# Altium footprint library ToolDoorController.PcbLib: 27 footprints (part 1 of 2)
Each footprint in its own frame and in the unit in brackets; x right, y up, seen from the top. Pads: shape width x height; smd on the part's side, far side on the other; paste and mask are expansions set on the pad; w line width, h text height; cw(c..) or ccw(c..) is an arc to the next point about the centre after c.
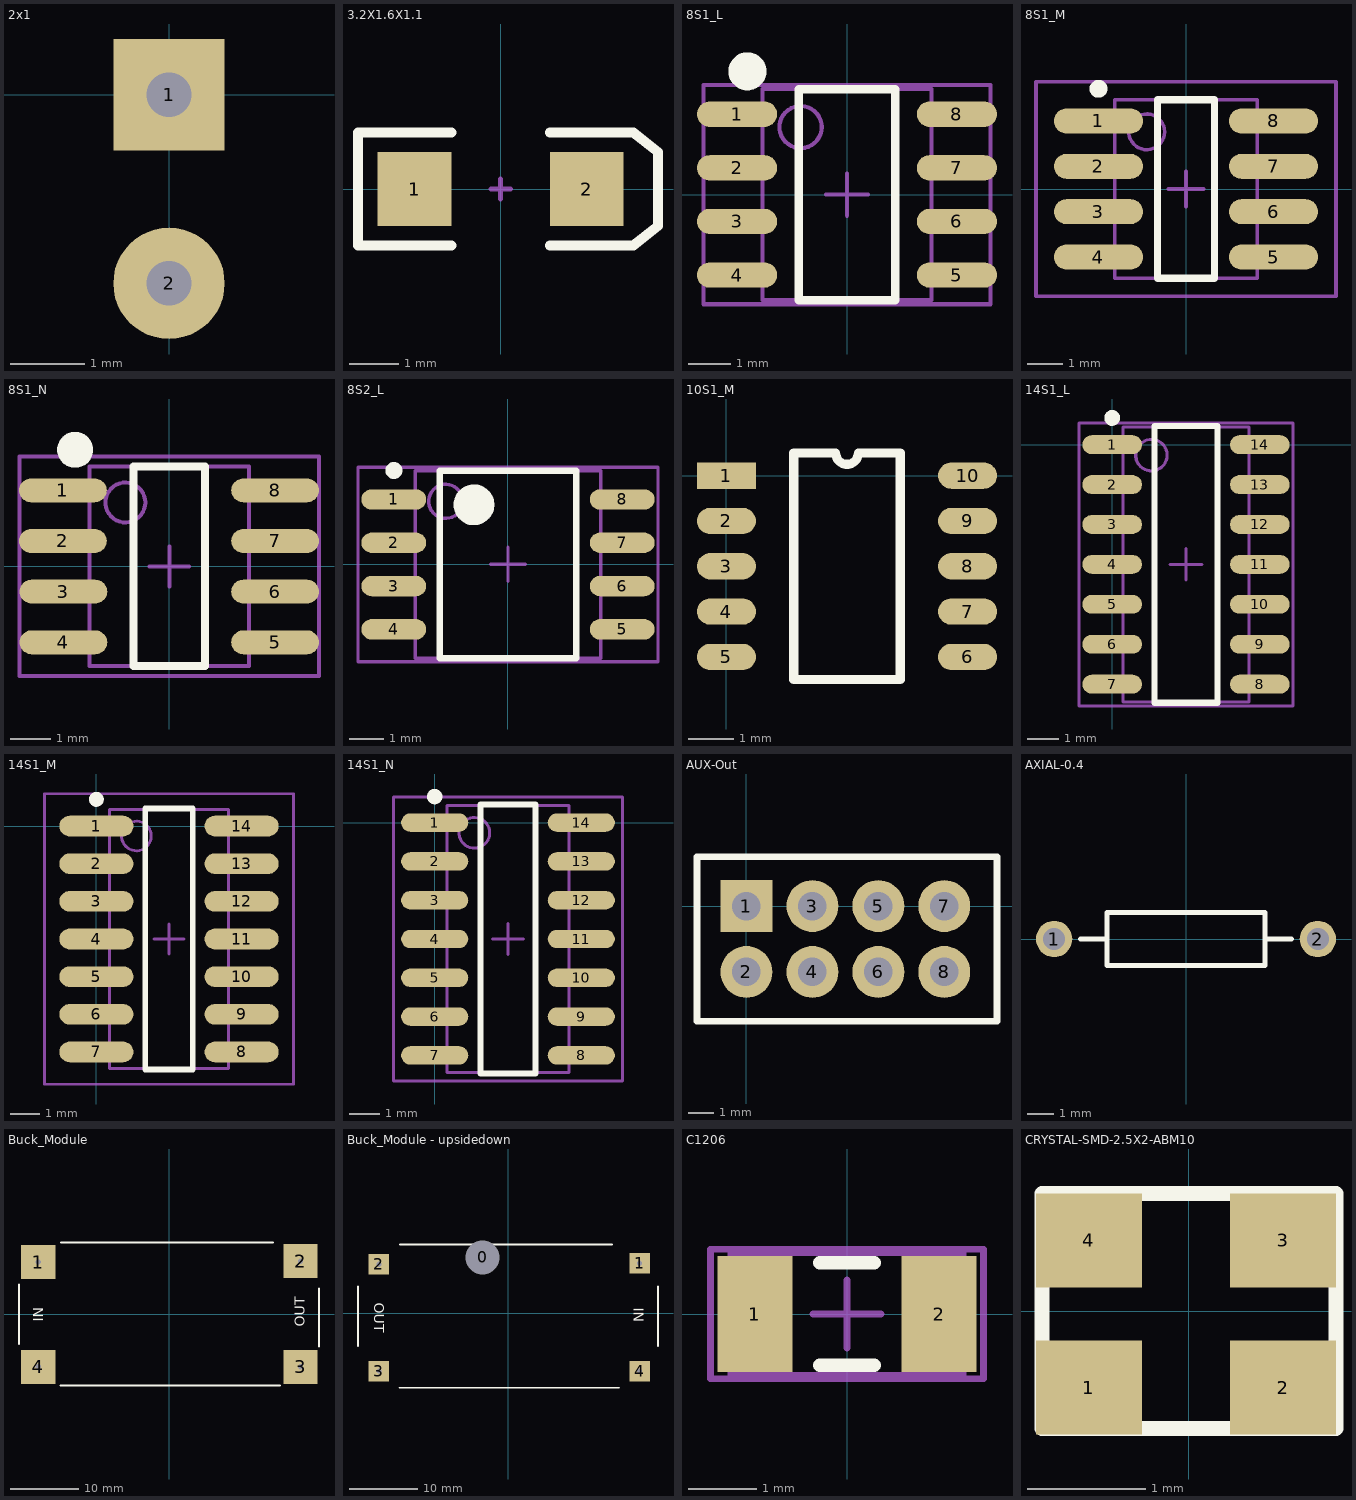
[diagram p0: the footprints below, top view; thin cyan lines are the x and y axes]

## 2x1 [mm]
pads (2):
  rect 1.5x1.5 hole 0.6: 1(0,0)
  round 1.5 hole 0.6: 2(0,-2.54)

## 3.2X1.6X1.1 [mm] "SMT LED; 2 Flat Leads"
height 1.2
pads (2):
  rect 1.5x1.5 smd: 1(-1.75,0) 2(1.75,0)
Top Overlay:
  lines w0.2: -1,-1.15 -2.9,-1.15 -2.9,1.15 -1,1.15 ; 1,-1.15 2.7,-1.15 3.2,-0.75 3.2,0.75 2.7,1.15 1,1.15
Mechanical 1:
  lines w0.1: -0.2,0 0.2,0 ; 0,-0.2 0,0.2

## 8S1_L [mm] "SOIC, 8-Leads, Body 4.9x3.9mm, Pitch 1.27mm, IPC High Density"
height 1.75
pads (8):
  oval 1.9x0.6 smd: 1(-2.604,1.905) 2(-2.604,0.635) 3(-2.604,-0.635) 4(-2.604,-1.905) 5(2.604,-1.905) 6(2.604,-0.635) 7(2.604,0.635) 8(2.604,1.905)
Top Overlay:
  circle w0.5: c-2.359,2.921 r0.2
  lines w0.2: -1.143,-2.5 -1.143,2.5 1.143,2.5 1.143,-2.5 -1.143,-2.5
Mechanical 13:
  circle w0.1: c-1.1,1.6 r0.5
  lines w0.1: -2,-2.5 2,-2.5 2,2.5 -2,2.5 -2,-2.5
Mechanical 15:
  lines w0.1: -0.5,0 0.5,0 ; 0,-0.5 0,0.5 ; -3.4,-2.6 3.4,-2.6 3.4,2.6 -3.4,2.6 -3.4,-2.6
3D body: height 1.75, standoff 0, extent -2,-2.5 2,2.5

## 8S1_M [mm] "SOIC, 8-Leads, Body 4.9x3.9mm, Pitch 1.27mm, IPC Low Density"
height 1.75
pads (8):
  oval 2.5x0.7 smd: 1(-2.45,1.905) 2(-2.45,0.635) 3(-2.45,-0.635) 4(-2.45,-1.905) 5(2.45,-1.905) 6(2.45,-0.635) 7(2.45,0.635) 8(2.45,1.905)
Top Overlay:
  circle w0.25: c-2.45,2.805 r0.125
  lines w0.2: -0.8,-2.5 -0.8,2.5 0.8,2.5 0.8,-2.5 -0.8,-2.5
Mechanical 13:
  circle w0.1: c-1.1,1.6 r0.5
  lines w0.1: -2,-2.5 -2,2.5 2,2.5 2,-2.5 -2,-2.5
Mechanical 15:
  lines w0.1: -0.5,0 0.5,0 ; 0,-0.5 0,0.5 ; -4.2,-3 -4.2,3 4.2,3 4.2,-3 -4.2,-3
3D body: height 1.75, standoff 0, extent -2,-2.5 2,2.5

## 8S1_N [mm] "SOIC, 8-Leads, Body 4.9x3.9mm, Pitch 1.27mm, IPC Medium Density"
height 1.75
pads (8):
  oval 2.2x0.6 smd: 1(-2.667,1.905) 2(-2.667,0.635) 3(-2.654,-0.635) 4(-2.654,-1.905) 5(2.654,-1.905) 6(2.654,-0.635) 7(2.654,0.635) 8(2.654,1.905)
Top Overlay:
  circle w0.5: c-2.359,2.921 r0.2
  lines w0.2: -0.9,-2.5 0.9,-2.5 0.9,2.5 -0.9,2.5 -0.9,-2.5
Mechanical 13:
  circle w0.1: c-1.1,1.6 r0.5
  lines w0.1: -2,-2.5 2,-2.5 2,2.5 -2,2.5 -2,-2.5
Mechanical 15:
  lines w0.1: -0.5,0 0.5,0 ; 0,-0.5 0,0.5 ; -3.75,-2.75 3.75,-2.75 3.75,2.75 -3.75,2.75 -3.75,-2.75
3D body: height 1.75, standoff 0, extent -2,-2.5 2,2.5

## 8S2_L [mm] "SOP, 8-Leads, Body 5.3x5.3mm, Pitch 1.27mm, IPC High Density"
height 2.16
pads (8):
  oval 1.9x0.6 smd: 1(-3.35,1.905) 2(-3.35,0.635) 3(-3.35,-0.635) 4(-3.35,-1.905) 5(3.35,-1.905) 6(3.35,-0.635) 7(3.35,0.635) 8(3.35,1.905)
Top Overlay:
  circle w0.25: c-3.35,2.755 r0.125
  circle w0.6: c-1,1.75 r0.3
  lines w0.2: -2,-2.75 -2,2.75 2,2.75 2,-2.75 -2,-2.75
Mechanical 13:
  circle w0.1: c-1.825,1.85 r0.5
  lines w0.1: -2.725,-2.75 -2.725,2.75 2.725,2.75 2.725,-2.75 -2.725,-2.75
Mechanical 15:
  lines w0.1: -0.5,0 0.5,0 ; 0,-0.5 0,0.5 ; -4.4,-2.85 -4.4,2.85 4.4,2.85 4.4,-2.85 -4.4,-2.85
3D body: height 2.16, standoff 0, extent -2.725,-2.75 2.725,2.75

## 10S1_M [mm]
pads (10):
  rect 1.3x0.58 smd: 1(0,0)
  oval 1.3x0.58 smd: 2(0,-1) 3(0,-2) 4(0,-3) 5(0,-4) 6(5.32,-4) 7(5.32,-3) 8(5.32,-2) 9(5.32,-1) 10(5.32,0)
Top Overlay:
  lines w0.2: 1.485,-4.5 1.485,0.5 2.41,0.5 ccw(c2.66,0.5) 2.91,0.5 3.835,0.5 3.835,-4.5 1.485,-4.5
3D body: height 1.75, standoff 0, extent 0,-4.572 5.334,0.762

## 14S1_L [mm] "SOIC, 14-Leads, Body 8.7x3.9mm, Pitch 1.27mm, IPC High Density"
height 1.75
pads (14):
  oval 1.9x0.6 smd: 1(0,0) 2(0,-1.27) 3(0,-2.54) 4(0,-3.81) 5(0,-5.08) 6(0,-6.35) 7(0,-7.62) 8(4.7,-7.62) 9(4.7,-6.35) 10(4.7,-5.08) 11(4.7,-3.81) 12(4.7,-2.54) 13(4.7,-1.27) 14(4.7,0)
Top Overlay:
  circle w0.25: c0,0.85 r0.125
  lines w0.2: 1.35,-8.21 3.35,-8.21 3.35,0.59 1.35,0.59 1.35,-8.21
Mechanical 13:
  circle w0.1: c1.25,-0.335 r0.5
  lines w0.1: 0.35,-8.185 4.35,-8.185 4.35,0.565 0.35,0.565 0.35,-8.185
Mechanical 15:
  lines w0.1: 1.85,-3.81 2.85,-3.81 ; 2.35,-4.31 2.35,-3.31 ; -1.05,-8.31 5.75,-8.31 5.75,0.69 -1.05,0.69 -1.05,-8.31
3D body: height 1.75, standoff 0, extent 0.35,-8.185 4.35,0.565

## 14S1_M [mm] "SOIC, 14-Leads, Body 8.7x3.9mm, Pitch 1.27mm, IPC Low Density"
height 1.75
pads (14):
  oval 2.5x0.7 smd: 1(0,0) 2(0,-1.27) 3(0,-2.54) 4(0,-3.81) 5(0,-5.08) 6(0,-6.35) 7(0,-7.62) 8(4.9,-7.62) 9(4.9,-6.35) 10(4.9,-5.08) 11(4.9,-3.81) 12(4.9,-2.54) 13(4.9,-1.27) 14(4.9,0)
Top Overlay:
  circle w0.25: c0,0.9 r0.125
  lines w0.2: 1.65,-8.21 3.25,-8.21 3.25,0.59 1.65,0.59 1.65,-8.21
Mechanical 13:
  circle w0.1: c1.35,-0.335 r0.5
  lines w0.1: 0.45,-8.185 4.45,-8.185 4.45,0.565 0.45,0.565 0.45,-8.185
Mechanical 15:
  lines w0.1: 1.95,-3.81 2.95,-3.81 ; 2.45,-4.31 2.45,-3.31 ; -1.75,-8.71 6.65,-8.71 6.65,1.09 -1.75,1.09 -1.75,-8.71
3D body: height 1.75, standoff 0, extent 0.45,-8.185 4.45,0.565

## 14S1_N [mm] "SOIC, 14-Leads, Body 8.7x3.9mm, Pitch 1.27mm, IPC Medium Density"
height 1.75
pads (14):
  oval 2.2x0.6 smd: 1(0,0) 2(0,-1.27) 3(0,-2.54) 4(0,-3.81) 5(0,-5.08) 6(0,-6.35) 7(0,-7.62) 8(4.8,-7.62) 9(4.8,-6.35) 10(4.8,-5.08) 11(4.8,-3.81) 12(4.8,-2.54) 13(4.8,-1.27) 14(4.8,0)
Top Overlay:
  circle w0.25: c0,0.85 r0.125
  lines w0.2: 1.5,-8.21 1.5,0.59 3.3,0.59 3.3,-8.21 1.5,-8.21
Mechanical 13:
  circle w0.1: c1.3,-0.335 r0.5
  lines w0.1: 0.4,-8.185 0.4,0.565 4.4,0.565 4.4,-8.185 0.4,-8.185
Mechanical 15:
  lines w0.1: 1.9,-3.81 2.9,-3.81 ; 2.4,-4.31 2.4,-3.31 ; -1.35,-8.46 -1.35,0.84 6.15,0.84 6.15,-8.46 -1.35,-8.46
3D body: height 1.75, standoff 0, extent 0.4,-8.185 4.4,0.565

## AUX-Out [mm] "2.54mm"
pads (8):
  rect 2x2 hole 1.1: 1(0,0)
  round 2 hole 1.1: 2(0,-2.54) 3(2.54,0) 4(2.54,-2.54) 5(5.08,0) 6(5.08,-2.54) 7(7.62,0) 8(7.62,-2.54)
Top Overlay:
  lines w0.254: -1.905,-4.445 -1.905,1.905 9.652,1.905 9.652,-4.445 -1.905,-4.445

## AXIAL-0.4 [mm] "Axial Device, Thru-Hole; 2 Leads; 0.4 in Pin Spacing"
height 2.032
pads (2):
  round 1.4 hole 0.85: 1(-5.08,0) 2(5.08,0)
Top Overlay:
  lines w0.2: -4.064,0 -3.048,0 ; 3.048,0 4.064,0 ; -3.048,-1.016 -3.048,1.016 3.048,1.016 3.048,-1.016 -3.048,-1.016

## Buck_Module [mil]
height 472.44
pads (4):
  rect 196.85x196.85 hole 30: 1(-755,300) 2(760,305) 3(760,-305) 4(-755,-305)
Top Overlay:
  lines w10: -866.14,-173.86 -866.14,172.24 ; -626.61,-413.39 641.61,-413.39 ; -625,413.39 601.61,413.39 ; 866.14,-188.86 866.14,148.86
  text "IN" at -725,-45 h60
  text "OUT" at 785,-75 h60
3D body: height 590.55, standoff 118.11, extent -855,-400 855,400

## Buck_Module - upsidedown [mm]
height 12.3
pads (5):
  round 3 hole 5 unplated: 0(-3.8,8.184)
  rect 3x3 hole 0.762: 1(19.241,7.311) 2(-19,7.184) 3(-19,-8.5) 4(19.241,-8.5)
Top Overlay:
  lines w0.254: -22.063,-4.852 -22.063,3.939 ; -15.98,-10.936 16.234,-10.936 ; -15.938,10.064 15.218,10.064 ; 21.936,-4.852 21.936,3.939
  text "OUT" at -19.685,1.524 h1.52
  text "IN" at 18.415,0.762 h1.52
3D body: height 12, standoff 0, extent 11.747,-10.85 21.907,9.978
3D body: height 12, standoff 0, extent -21.971,-10.85 -3.238,10.155
3D body: height 12, standoff 4, extent -14.16,-10.977 11.747,10.105

## C1206 [mm] "Chip Capacitor, Body 3.2x1.6mm, IPC High Density"
height 1.3
pads (2):
  rect 1.1x1.7 smd: 1(-1.35,0) 2(1.35,0)
Top Overlay:
  lines w0.2: -0.4,-0.75 0.4,-0.75 ; -0.4,0.75 0.4,0.75
Mechanical 13:
  lines w0.1: -1.7,-0.9 1.7,-0.9 1.7,0.9 -1.7,0.9 -1.7,-0.9
Mechanical 15:
  lines w0.1: -0.5,0 0.5,0 ; 0,-0.5 0,0.5 ; -2,-0.95 2,-0.95 2,0.95 -2,0.95 -2,-0.95
3D body: height 1.3, standoff 0, extent -1.7,-0.9 1.7,0.9

## CRYSTAL-SMD-2.5X2-ABM10 [mm]
pads (4):
  rect 0.9x0.8 smd: 1(-0.85,-0.65) 2(0.8,-0.65) 3(0.8,0.6) 4(-0.85,0.6)
Top Overlay:
  lines w0.127: -1.25,-1 -1.25,1 ; -1.25,-1 1.25,-1 ; -1.25,-1 -1.25,1 ; -1.25,-1 1.25,-1 ; -1.25,1 1.25,1 ; -1.25,1 1.25,1 ; 1.25,-1 1.25,1 ; 1.25,-1 1.25,1